# EAGLE library part DIP-SW-CTS-208-5 (library ferraris_sensor_project)
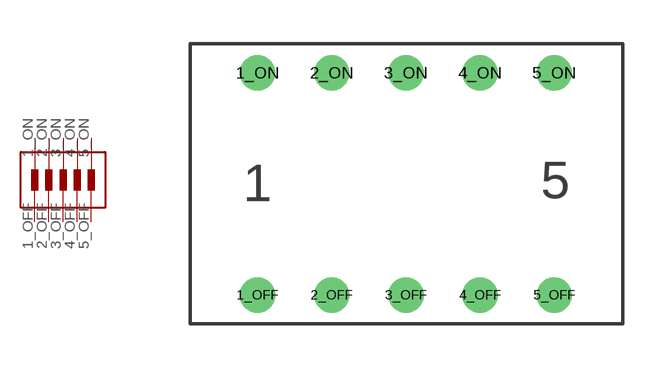
[diagram p0: symbol with the pads of DIP-SW-CTS-208-5; footprint DIP-SW-CTS-208-5]

Designator prefix -

## DIP-SW-CTS-208-5  [DIP-SW-CTS-208-5]
1_OFF  1_OFF
1_ON  1_ON
2_OFF  2_OFF
2_ON  2_ON
3_OFF  3_OFF
3_ON  3_ON
4_OFF  4_OFF
4_ON  4_ON
5_OFF  5_OFF
5_ON  5_ON

## Footprint DIP-SW-CTS-208-5 (pad centres in mm)
drill 0.7: 1_OFF 0,-7.62; 1_ON 0,0; 2_OFF 2.54,-7.62; 2_ON 2.54,0; 3_OFF 5.08,-7.62; 3_ON 5.08,0; 4_OFF 7.62,-7.62; 4_ON 7.62,0; 5_OFF 10.16,-7.62; 5_ON 10.16,0